# Altium footprint library Foot_Lib_revision.PcbLib: 31 footprints (part 1 of 2)
Each footprint in its own frame and in the unit in brackets; x right, y up, seen from the top. Pads: shape width x height; smd on the part's side, far side on the other; paste and mask are expansions set on the pad; w line width, h text height; cw(c..) or ccw(c..) is an arc to the next point about the centre after c.
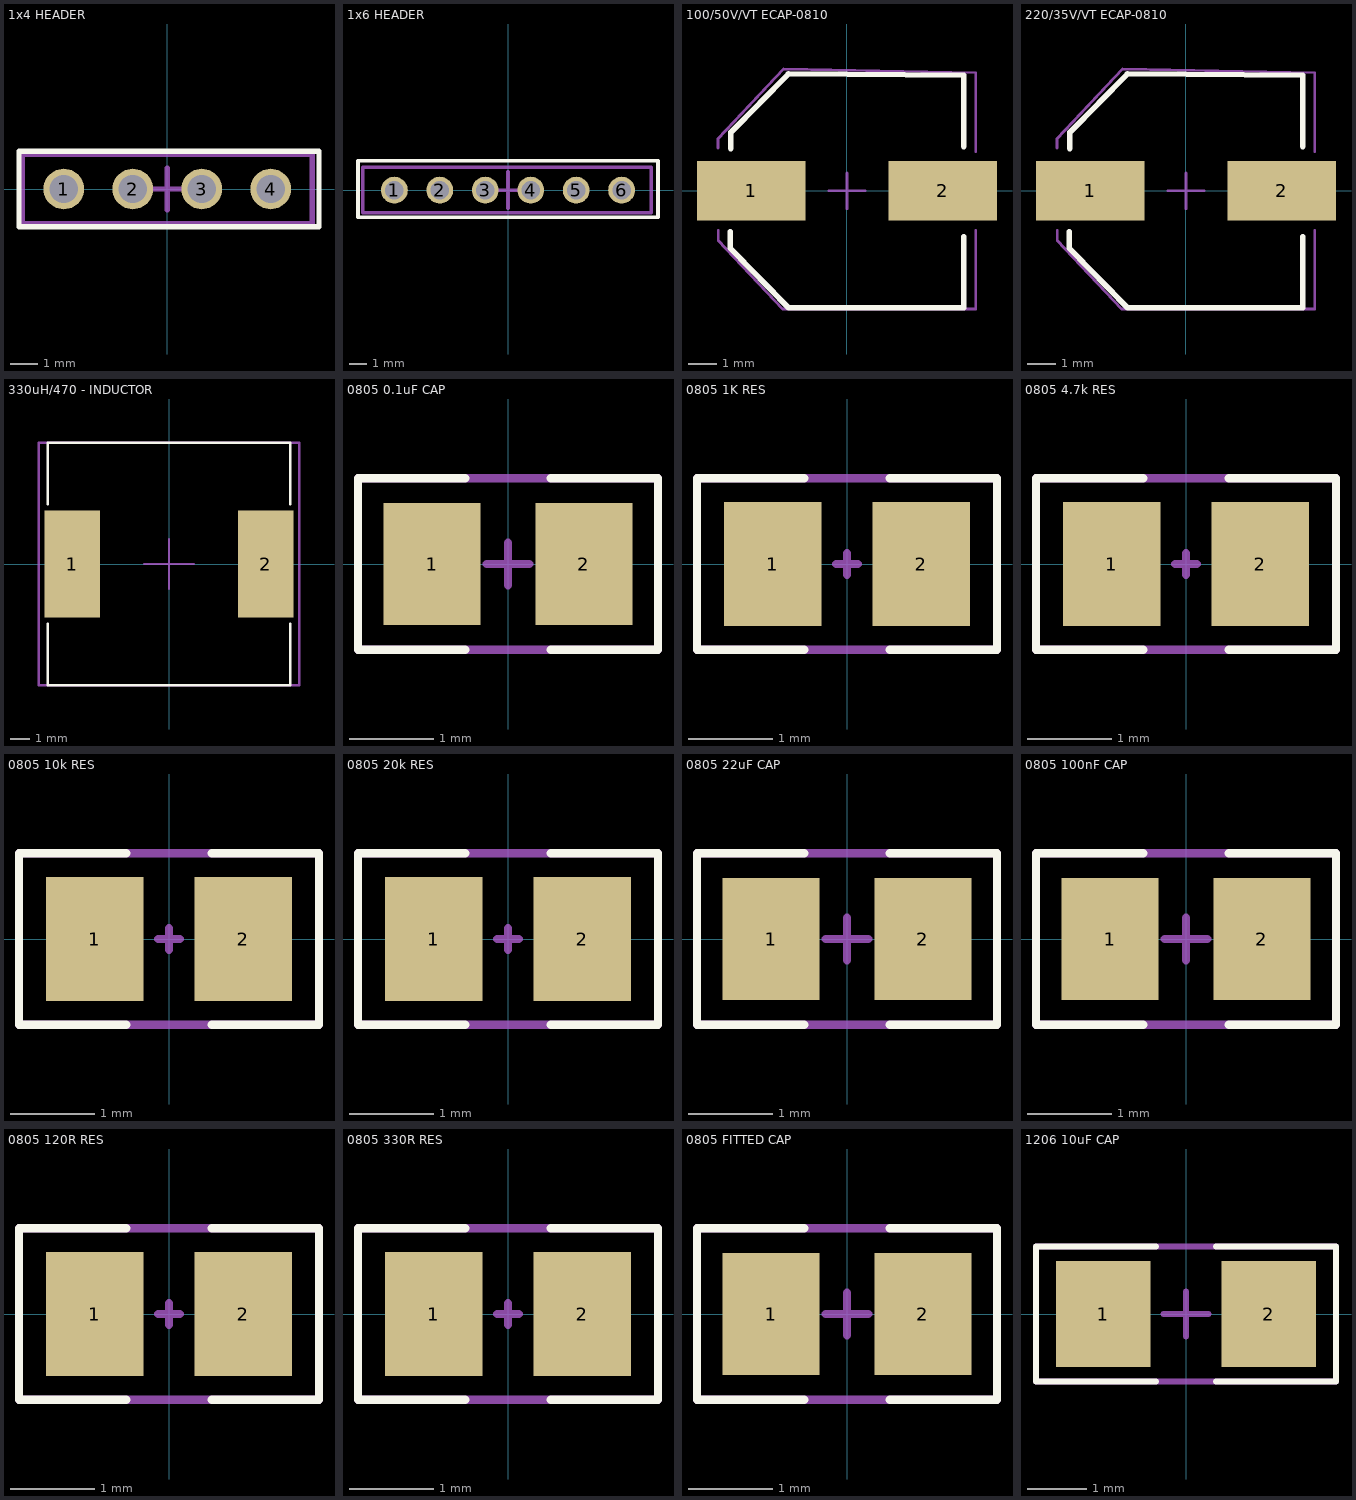
[diagram p0: the footprints below, top view; thin cyan lines are the x and y axes]

## 1x4 HEADER [mm]
pads (4):
  round 1.5 hole 1.04 mask+0.05: 1(-3.81,0) 2(-1.27,0) 3(1.27,0) 4(3.81,0)
Top Overlay:
  lines w0.2: -5.461,-1.397 -5.461,1.397 5.588,1.397 5.588,-1.397 -5.461,-1.397
Top Component Center:
  lines w0.2: -0.762,0 0,0 ; 0,-0.762 0,0 ; 0,0.762 0,0 ; 0.762,0 0,0 ; -5.334,-1.27 5.334,-1.27 5.334,1.27 -5.334,1.27 -5.334,-1.27
Top Designator:
  text ".Designator" at -0.127,-0.127 h1.52
3D body "zl262-4s_p2-54_l10-6_w2-54_h8-5.stp": height 8.5, standoff -3, extent -5.33,-1.27 5.33,1.27

## 1x6 HEADER [mm]
pads (6):
  round 1.5 hole 1.04 mask+0.05: 1(-6.35,0) 2(-3.81,0) 3(-1.27,0) 4(1.27,0) 5(3.81,0) 6(6.35,0)
Top Overlay:
  lines w0.2: -8.382,-1.524 8.382,-1.524 8.382,1.651 -8.382,1.651 -8.382,-1.524
Top Component Center:
  lines w0.2: -1.016,0 0,0 ; 0,-1.016 0,0 ; 0,1.016 0,0 ; 1.016,0 0,0 ; -8.128,-1.27 -8.128,1.27 8.001,1.27 8.001,-1.27 -8.128,-1.27
Top Designator:
  text ".Designator" at -0.127,-0.127 h1.52
3D body "HEADER6PFEM.stp": height 8.3, standoff -3.2, extent -8.05,-1.2 8.05,1.2

## 100/50V/VT ECAP-0810 [mm]
pads (2):
  rect 3.85x2.1 smd: 1(-3.4,0) 2(3.4,0)
Top Overlay:
  lines w0.2: -4.15,-1.45 -4.15,-2.025 -2.075,-4.15 4.15,-4.15 4.15,-1.625 ; -4.125,1.5 -4.125,2.075 -2.075,4.15 4.15,4.1 4.15,1.575
Top Component Center:
  lines w0.1: -4.581,1.524 -4.581,1.848 -2.254,4.32 4.572,4.191 4.572,1.397 ; -4.572,-1.397 -4.572,-1.762 -2.286,-4.191 -2.032,-4.191 4.572,-4.191 4.572,-1.397 ; -0.635,0 0,0 ; 0,-0.635 0,0 ; 0,0.635 0,0 ; 0.635,0 0,0
Top Designator:
  text ".Designator" at -0.127,-0.127 h1.52
3D body "AHA0810330M050R.stp": height 11, standoff 0, extent -4.6,-4.25 4.6,4.25

## 220/35V/VT ECAP-0810 [mm]
pads (2):
  rect 3.85x2.1 smd: 1(-3.4,0) 2(3.4,0)
Top Overlay:
  lines w0.2: -4.15,-1.45 -4.15,-2.025 -2.075,-4.15 4.15,-4.15 4.15,-1.625 ; -4.125,1.5 -4.125,2.075 -2.075,4.15 4.15,4.1 4.15,1.575
Top Component Center:
  lines w0.1: -4.581,1.524 -4.581,1.848 -2.254,4.32 4.572,4.191 4.572,1.397 ; -4.572,-1.397 -4.572,-1.762 -2.286,-4.191 -2.032,-4.191 4.572,-4.191 4.572,-1.397 ; -0.635,0 0,0 ; 0,-0.635 0,0 ; 0,0.635 0,0 ; 0.635,0 0,0
Top Designator:
  text ".Designator" at -0.127,-0.127 h1.52
3D body "AHA0810330M050R.stp": height 11, standoff 0, extent -4.6,-4.25 4.6,4.25

## 330uH/470 - INDUCTOR [mm]
pads (2):
  rect 2.8x5.4 smd: 1(-4.9,0) 2(4.9,0)
Top Overlay:
  lines w0.127: -6.15,-3.02 -6.15,-6.15 6.15,-6.15 6.15,-3.02 ; -6.15,3.02 -6.15,6.15 6.15,6.15 6.15,3.02
Top Component Center:
  lines w0.1: -1.27,0 0,0 ; 0,-1.27 0,0 ; 0,1.27 0,0 ; 1.27,0 0,0
  lines w0.127: -6.604,-6.15 -6.604,6.15 6.604,6.15 6.604,-6.15 -6.604,-6.15
Top Designator:
  text ".Designator" at -0.125,-0.127 h1.52
3D body "L_12x12mm_H8mm.step": height 7.46, standoff -0.1, extent -6,-6 6,6

## 0805 0.1uF CAP [mm]
pads (2):
  rect 1.15x1.45 smd: 1(-0.9,0) 2(0.9,0)
Top Overlay:
  lines w0.1: -0.508,-1.016 -1.778,-1.016 -1.778,1.016 -0.508,1.016 ; 0.508,-1.016 1.778,-1.016 1.778,1.016 0.508,1.016
Top Component Center:
  lines w0.1: -0.254,0 0,0 ; 0,-0.254 0,0 ; 0,0.254 0,0 ; 0.254,0 0,0 ; -1.778,-1.016 1.778,-1.016 1.778,1.016 -1.778,1.016 -1.778,-1.016
Top Designator:
  text ".Designator" at -0.127,-0.127 h1.52
3D body "step_temp.STEP": height 0.94, standoff 0, extent -1.005,-0.625 1.005,0.625

## 0805 1K RES [mm]
pads (2):
  rect 1.16x1.47 smd: 1(-0.88,0) 2(0.88,0)
Top Overlay:
  lines w0.1: -0.508,-1.016 -1.778,-1.016 -1.778,1.016 -0.508,1.016 ; 0.508,-1.016 1.778,-1.016 1.778,1.016 0.508,1.016
Top Component Center:
  lines w0.1: -0.127,0 0,0 ; 0,-0.127 0,0 ; 0,0.127 0,0 ; 0.127,0 0,0 ; -1.778,-1.016 1.778,-1.016 1.778,1.016 -1.778,1.016 -1.778,-1.016
Top Designator:
  text ".Designator" at -0.127,-0.127 h1.52
3D body "0805_RES.stp": height 0.61, standoff 0, extent -1.03,-0.586 0.97,0.664

## 0805 4.7k RES [mm]
pads (2):
  rect 1.16x1.47 smd: 1(-0.88,0) 2(0.88,0)
Top Overlay:
  lines w0.1: -0.508,-1.016 -1.778,-1.016 -1.778,1.016 -0.508,1.016 ; 0.508,-1.016 1.778,-1.016 1.778,1.016 0.508,1.016
Top Component Center:
  lines w0.1: -0.127,0 0,0 ; 0,-0.127 0,0 ; 0,0.127 0,0 ; 0.127,0 0,0 ; -1.778,-1.016 1.778,-1.016 1.778,1.016 -1.778,1.016 -1.778,-1.016
Top Designator:
  text ".Designator" at -0.127,-0.127 h1.52
3D body "0805_RES.stp": height 0.61, standoff 0, extent -1.03,-0.586 0.97,0.664

## 0805 10k RES [mm]
pads (2):
  rect 1.16x1.47 smd: 1(-0.88,0) 2(0.88,0)
Top Overlay:
  lines w0.1: -0.508,-1.016 -1.778,-1.016 -1.778,1.016 -0.508,1.016 ; 0.508,-1.016 1.778,-1.016 1.778,1.016 0.508,1.016
Top Component Center:
  lines w0.1: -0.127,0 0,0 ; 0,-0.127 0,0 ; 0,0.127 0,0 ; 0.127,0 0,0 ; -1.778,-1.016 -1.778,1.016 1.778,1.016 1.778,-1.016 -1.778,-1.016
Top Designator:
  text ".Designator" at -0.127,-0.127 h1.52
3D body "0805_RES.stp": height 0.61, standoff 0, extent -1.03,-0.586 0.97,0.664

## 0805 20k RES [mm]
pads (2):
  rect 1.16x1.47 smd: 1(-0.88,0) 2(0.88,0)
Top Overlay:
  lines w0.1: -0.508,-1.016 -1.778,-1.016 -1.778,1.016 -0.508,1.016 ; 0.508,-1.016 1.778,-1.016 1.778,1.016 0.508,1.016
Top Component Center:
  lines w0.1: -0.127,0 0,0 ; 0,-0.127 0,0 ; 0,0.127 0,0 ; 0.127,0 0,0 ; -1.778,-1.016 -1.778,1.016 1.778,1.016 1.778,-1.016 -1.778,-1.016
Top Designator:
  text ".Designator" at -0.127,-0.127 h1.52
3D body "0805_RES.stp": height 0.61, standoff 0, extent -1.03,-0.586 0.97,0.664

## 0805 22uF CAP [mm]
pads (2):
  rect 1.15x1.45 smd: 1(-0.9,0) 2(0.9,0)
Top Overlay:
  lines w0.1: -0.508,-1.016 -1.778,-1.016 -1.778,1.016 -0.508,1.016 ; 0.508,-1.016 1.778,-1.016 1.778,1.016 0.508,1.016
Top Component Center:
  lines w0.1: -0.254,0 0,0 ; 0,-0.254 0,0 ; 0,0.254 0,0 ; 0.254,0 0,0 ; -1.778,-1.016 -1.778,1.016 1.778,1.016 1.778,-1.016 -1.778,-1.016
Top Designator:
  text ".Designator" at -0.127,-0.127 h1.52
3D body "step_temp.STEP": height 0.94, standoff 0, extent -1.005,-0.625 1.005,0.625

## 0805 100nF CAP [mm]
pads (2):
  rect 1.15x1.45 smd: 1(-0.9,0) 2(0.9,0)
Top Overlay:
  lines w0.1: -0.508,-1.016 -1.778,-1.016 -1.778,1.016 -0.508,1.016 ; 0.508,-1.016 1.778,-1.016 1.778,1.016 0.508,1.016
Top Component Center:
  lines w0.1: -0.254,0 0,0 ; 0,-0.254 0,0 ; 0,0.254 0,0 ; 0.254,0 0,0 ; -1.778,-1.016 -1.778,1.016 1.778,1.016 1.778,-1.016 -1.778,-1.016
Top Designator:
  text ".Designator" at -0.127,-0.127 h1.52
3D body "step_temp.STEP": height 0.94, standoff 0, extent -1.005,-0.625 1.005,0.625

## 0805 120R RES [mm]
pads (2):
  rect 1.16x1.47 smd: 1(-0.88,0) 2(0.88,0)
Top Overlay:
  lines w0.1: -0.508,-1.016 -1.778,-1.016 -1.778,1.016 -0.508,1.016 ; 0.508,-1.016 1.778,-1.016 1.778,1.016 0.508,1.016
Top Component Center:
  lines w0.1: -0.127,0 0,0 ; 0,-0.127 0,0 ; 0,0.127 0,0 ; 0.127,0 0,0 ; -1.778,-1.016 -1.778,1.016 1.778,1.016 1.778,-1.016 -1.778,-1.016
Top Designator:
  text ".Designator" at -0.127,-0.127 h1.52
3D body "0805_RES.stp": height 0.61, standoff 0, extent -1.03,-0.586 0.97,0.664

## 0805 330R RES [mm]
pads (2):
  rect 1.16x1.47 smd: 1(-0.88,0) 2(0.88,0)
Top Overlay:
  lines w0.1: -0.508,-1.016 -1.778,-1.016 -1.778,1.016 -0.508,1.016 ; 0.508,-1.016 1.778,-1.016 1.778,1.016 0.508,1.016
Top Component Center:
  lines w0.1: -0.127,0 0,0 ; 0,-0.127 0,0 ; 0,0.127 0,0 ; 0.127,0 0,0 ; -1.778,-1.016 -1.778,1.016 1.778,1.016 1.778,-1.016 -1.778,-1.016
Top Designator:
  text ".Designator" at -0.127,-0.127 h1.52
3D body "0805_RES.stp": height 0.61, standoff 0, extent -1.03,-0.586 0.97,0.664

## 0805 FITTED CAP [mm]
pads (2):
  rect 1.15x1.45 smd: 1(-0.9,0) 2(0.9,0)
Top Overlay:
  lines w0.1: -0.508,-1.016 -1.778,-1.016 -1.778,1.016 -0.508,1.016 ; 0.508,-1.016 1.778,-1.016 1.778,1.016 0.508,1.016
Top Component Center:
  lines w0.1: -0.254,0 0,0 ; 0,-0.254 0,0 ; 0,0.254 0,0 ; 0.254,0 0,0 ; -1.778,-1.016 -1.778,1.016 1.778,1.016 1.778,-1.016 -1.778,-1.016
Top Designator:
  text ".Designator" at -0.127,-0.127 h1.52
3D body "step_temp.STEP": height 0.94, standoff 0, extent -1.005,-0.625 1.005,0.625

## 1206 10uF CAP [mm]
pads (2):
  rect 1.6x1.8 smd: 1(-1.4,0) 2(1.4,0)
Top Overlay:
  lines w0.1: -0.508,-1.143 -2.54,-1.143 -2.54,1.143 -0.508,1.143 ; 0.508,-1.143 2.54,-1.143 2.54,1.143 0.508,1.143
Top Component Center:
  lines w0.1: -0.381,0 0,0 ; 0,-0.381 0,0 ; 0,0.381 0,0 ; 0.381,0 0,0 ; -2.54,-1.143 2.54,-1.143 2.54,1.143 -2.54,1.143 -2.54,-1.143
Top Designator:
  text ".Designator" at -0.127,-0.127 h1.52
3D body "1206.step": height 1.1, standoff 0, extent -1.6,-0.8 1.6,0.8